# Altium footprint library 613 0xx 157 21.PcbLib: 6 footprints
Each footprint in its own frame and in the unit in brackets; x right, y up, seen from the top. Pads: shape width x height; smd on the part's side, far side on the other; paste and mask are expansions set on the pad; w line width, h text height; cw(c..) or ccw(c..) is an arc to the next point about the centre after c.
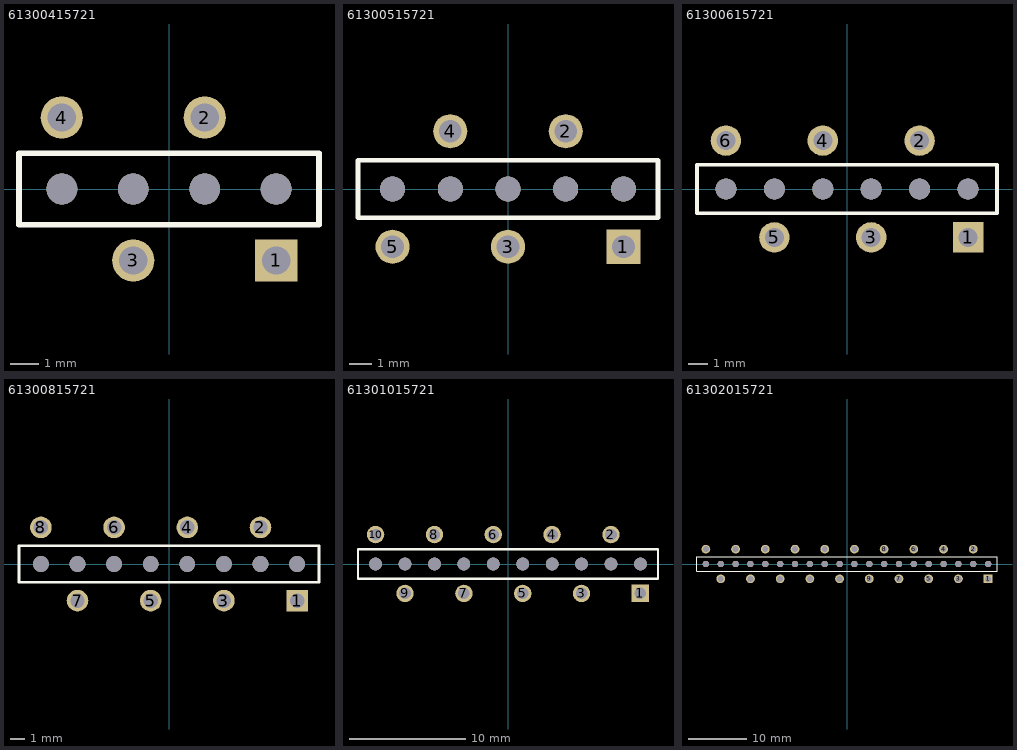
[diagram p0: the footprints below, top view; thin cyan lines are the x and y axes]

## 61300415721 [mm] "4 pins, 1 row, straight, gold plating"
height 5
pads (8):
  rect 1.5x1.5 hole 1: 1(3.81,-2.54)
  round 1.5 hole 1: 2(1.27,2.54) 3(-1.27,-2.54) 4(-3.81,2.54)
  round 1.1 hole 1.1 unplated: ""(-3.81,0) ""(-1.27,0) ""(1.27,0) ""(3.81,0)
Top Overlay:
  lines w0.2: -5.33,-1.27 5.33,-1.27 5.33,1.27 -5.33,1.27 -5.33,-1.27
3D body "61300415721.stp": height 5.22, standoff -2.88, extent -5.38,-2.665 5.38,2.665

## 61300515721 [mm] "5 pins, 1 row, straight, gold plating"
height 5
pads (10):
  rect 1.5x1.5 hole 1: 1(5.08,-2.54)
  round 1.5 hole 1: 2(2.54,2.54) 3(0,-2.54) 4(-2.54,2.54) 5(-5.08,-2.54)
  round 1.1 hole 1.1 unplated: ""(-5.08,0) ""(-2.54,0) ""(0,0) ""(2.54,0) ""(5.08,0)
Top Overlay:
  lines w0.2: -6.6,-1.27 6.6,-1.27 6.6,1.27 -6.6,1.27 -6.6,-1.27
3D body "61300515721.stp": height 5.22, standoff -2.88, extent -6.65,-2.665 6.65,2.665

## 61300615721 [mm] "6 pins, 1 row, straight, gold plating"
height 5
pads (12):
  rect 1.6x1.6 hole 1: 1(6.35,-2.54)
  round 1.6 hole 1: 2(3.81,2.54) 3(1.27,-2.54) 4(-1.27,2.54) 5(-3.81,-2.54) 6(-6.35,2.54)
  round 1.1 hole 1.1 unplated: ""(-6.35,0) ""(-3.81,0) ""(-1.27,0) ""(1.27,0) ""(3.81,0) ""(6.35,0)
Top Overlay:
  lines w0.2: -7.87,-1.27 7.87,-1.27 7.87,1.27 -7.87,1.27 -7.87,-1.27
3D body "61300615721.stp": height 5.22, standoff -2.88, extent -7.92,-2.665 7.92,2.665

## 61300815721 [mm] "8 pins, 1 row, straight, gold plating"
height 5
pads (16):
  rect 1.5x1.5 hole 1: 1(8.89,-2.54)
  round 1.5 hole 1: 2(6.35,2.54) 3(3.81,-2.54) 4(1.27,2.54) 5(-1.27,-2.54) 6(-3.81,2.54) 7(-6.35,-2.54) 8(-8.89,2.54)
  round 1.1 hole 1.1 unplated: ""(-8.89,0) ""(-6.35,0) ""(-3.81,0) ""(-1.27,0) ""(1.27,0) ""(3.81,0) ""(6.35,0) ""(8.89,0)
Top Overlay:
  lines w0.2: -10.41,-1.27 -10.41,1.27 10.41,1.27 10.41,-1.27 -10.41,-1.27
3D body "61300815721.stp": height 5.22, standoff -2.88, extent -10.46,-2.665 10.46,2.665

## 61301015721 [mm] "10 pins, 1 row, straight, gold plating"
height 5
pads (20):
  rect 1.5x1.5 hole 1: 1(11.43,-2.54)
  round 1.5 hole 1: 2(8.89,2.54) 3(6.35,-2.54) 4(3.81,2.54) 5(1.27,-2.54) 6(-1.27,2.54) 7(-3.81,-2.54) 8(-6.35,2.54) 9(-8.89,-2.54) 10(-11.43,2.54)
  round 1.1 hole 1.1 unplated: ""(-11.43,0) ""(-8.89,0) ""(-6.35,0) ""(-3.81,0) ""(-1.27,0) ""(1.27,0) ""(3.81,0) ""(6.35,0) ""(8.89,0) ""(11.43,0)
Top Overlay:
  lines w0.2: -12.95,-1.27 12.95,-1.27 12.95,1.27 -12.95,1.27 -12.95,-1.27
3D body "61301015721.stp": height 5.22, standoff -2.88, extent -13,-2.665 13,2.665

## 61302015721 [mm] "20 pins, 1 row, straight, gold plating"
height 5
pads (40):
  rect 1.5x1.5 hole 1: 1(24.13,-2.54)
  round 1.5 hole 1: 2(21.59,2.54) 3(19.05,-2.54) 4(16.51,2.54) 5(13.97,-2.54) 6(11.43,2.54) 7(8.89,-2.54) 8(6.35,2.54) 9(3.81,-2.54) 10(1.27,2.54) 11(-1.27,-2.54) 12(-3.81,2.54) 13(-6.35,-2.54) 14(-8.89,2.54) 15(-11.43,-2.54) 16(-13.97,2.54) 17(-16.51,-2.54) 18(-19.05,2.54) 19(-21.59,-2.54) 20(-24.13,2.54)
  round 1.1 hole 1.1 unplated: ""(-24.13,0) ""(-21.59,0) ""(-19.05,0) ""(-16.51,0) ""(-13.97,0) ""(-11.43,0) ""(-8.89,0) ""(-6.35,0) ""(-3.81,0) ""(-1.27,0) ""(1.27,0) ""(3.81,0) ""(6.35,0) ""(8.89,0) ""(11.43,0) ""(13.97,0) ""(16.51,0) ""(19.05,0) ""(21.59,0) ""(24.13,0)
Top Overlay:
  lines w0.2: -25.65,-1.27 -25.65,1.27 25.65,1.27 25.65,-1.27 -25.65,-1.27
3D body "61302015721.stp": height 5.22, standoff -2.88, extent -25.7,-2.665 25.7,2.665